# Altium footprint library B4B-XH-A(LF)(SN).PcbLib: 1 footprints
Each footprint in its own frame and in the unit in brackets; x right, y up, seen from the top. Pads: shape width x height; smd on the part's side, far side on the other; paste and mask are expansions set on the pad; w line width, h text height; cw(c..) or ccw(c..) is an arc to the next point about the centre after c.
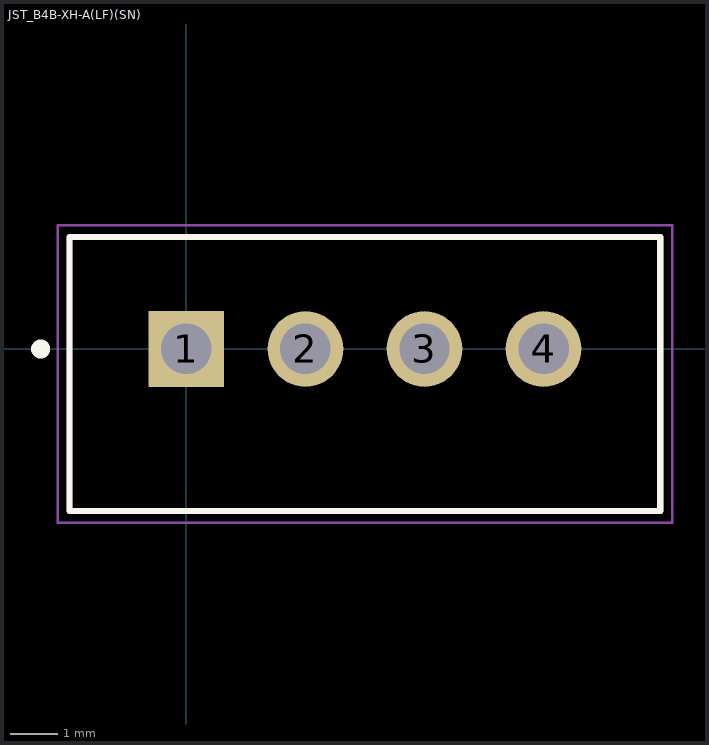
[diagram p0: the footprint, top view; thin cyan lines are the x and y axes]

## JST_B4B-XH-A(LF)(SN) [mm]
pads (4):
  rect 1.59x1.59 hole 1.06: 1(0,0)
  round 1.59 hole 1.06: 2(2.5,0) 3(5,0) 4(7.5,0)
Top Overlay:
  circle w0.2: c-3.06,0 r0.1
  lines w0.127: -2.45,-3.4 9.95,-3.4 9.95,2.35 -2.45,2.35 -2.45,-3.4
Mechanical 13:
  lines w0.127: -2.45,-3.4 9.95,-3.4 9.95,2.35 -2.45,2.35 -2.45,-3.4
Mechanical 15:
  lines w0.05: -2.7,-3.65 10.2,-3.65 10.2,2.6 -2.7,2.6 -2.7,-3.65
3D body "step_temp.STEP": height 7, standoff -3.4, extent -6.2,-2.875 6.2,2.875